# Altium footprint library RLC.PcbLib: 151 footprints (part 5 of 10)
Each footprint in its own frame and in the unit in brackets; x right, y up, seen from the top. Pads: shape width x height; smd on the part's side, far side on the other; paste and mask are expansions set on the pad; w line width, h text height; cw(c..) or ccw(c..) is an arc to the next point about the centre after c.
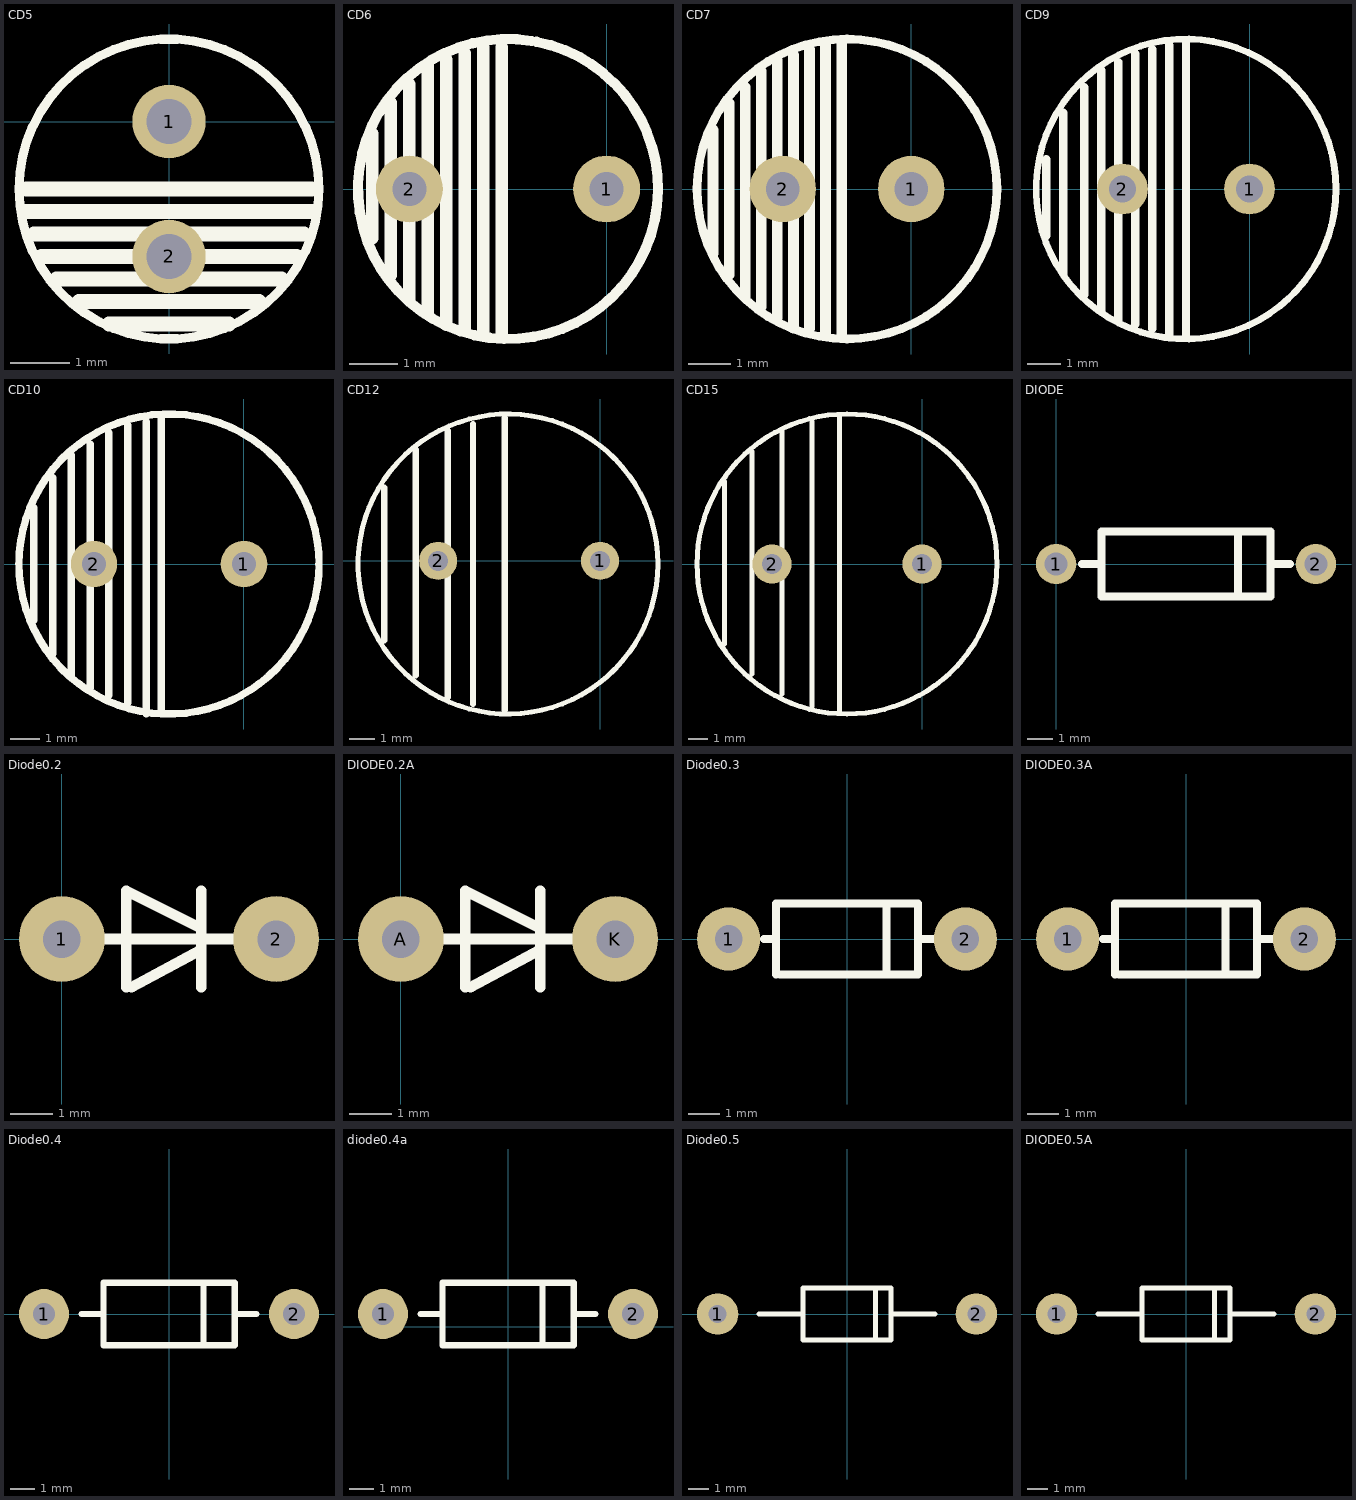
[diagram p4: the footprints below, top view; thin cyan lines are the x and y axes]

## CD5 [mm]
pads (2):
  round 1.24 hole 0.762: 1(0,0) 2(0,-2.286)
Top Overlay:
  circle w0.154: c0,-1.143 r2.54
  lines w0.254: -2.413,-1.524 2.413,-1.524 ; -2.413,-1.143 2.413,-1.143 ; -2.286,-1.905 2.286,-1.905 ; -2.159,-2.286 2.159,-2.286 ; -1.905,-2.667 1.905,-2.667 ; -1.524,-3.048 1.524,-3.048 ; -1.016,-3.429 1.016,-3.429

## CD6 [mm]
pads (2):
  round 1.38 hole 0.7: 1(0,0) 2(-4.064,0)
Top Overlay:
  lines w0.21: -1.549,3.052 ccw(c-2.032,0) -1.442,3.033
  lines w0.254: -4.826,-1.016 -4.826,1.143 ; -4.445,-1.778 -4.445,1.778 ; -4.064,-2.286 -4.064,2.159 ; -3.683,-2.54 -3.683,2.54 ; -3.302,-2.794 -3.302,2.667 ; -2.921,-2.921 -2.921,2.794 ; -2.54,-2.921 -2.54,2.921 ; -2.159,-3.048 -2.159,2.921

## CD7 [mil]
pads (2):
  round 62 hole 31.5: 1(0,0) 2(-120,0)
Top Overlay:
  circle w8: c-60,0 r140
  lines w10: -185,-60 -185,55 ; -170,-80 -170,80 ; -155,-100 -155,95 ; -140,-110 -140,110 ; -125,-120 -125,120 ; -110,-130 -110,125 ; -95,-130 -95,130 ; -80,-135 -80,135 ; -65,-135 -65,135

## CD9 [mil]
pads (2):
  round 60 hole 31.5: 1(0,0) 2(-150,0)
Top Overlay:
  circle w7.87: c-75,0 r177.16
  lines w10: -240,-55 -240,35 ; -220,-100 -220,90 ; -195,-125 -195,120 ; -175,-145 -175,140 ; -155,-155 -155,150 ; -135,-160 -135,160 ; -115,-165 -115,165 ; -95,-175 -95,170 ; -75,-175 -75,175

## CD10 [mil]
pads (2):
  round 62 hole 31.5: 1(0,0) 2(-200,0)
Top Overlay:
  circle w10: c-100,0 r200
  lines w10: -280,-75 -280,75 ; -255,-120 -255,115 ; -230,-150 -230,145 ; -205,-165 -205,160 ; -180,-175 -180,175 ; -155,-185 -155,185 ; -130,-200 -130,190 ; -110,-200 -110,195

## CD12 [mil]
pads (2):
  round 60 hole 31.5: 1(0,0) 2(-255,0)
Top Overlay:
  circle w7.87: c-145,-5 r236.22
  lines w10: -340,-125 -340,115 ; -290,-180 -290,175 ; -240,-215 -240,205 ; -200,-225 -200,215 ; -150,-235 -150,225

## CD15 [mm]
pads (2):
  round 2 hole 1: 1(0,0) 2(-7.62,0)
Top Overlay:
  circle w0.254: c-3.81,0 r7.62
  lines w0.254: -10.033,-4.064 -10.033,4.191 ; -8.636,-5.588 -8.636,5.715 ; -7.112,-6.604 -7.112,6.731 ; -5.588,-7.239 -5.588,7.239 ; -4.191,-7.493 -4.191,7.493

## DIODE [mil]
pads (2):
  round 62 hole 35.43: 1(0,0) 2(400,0)
Top Overlay:
  lines w12: 40,0 70,0 ; 280,-50 280,50 ; 330,0 360,0 ; 70,-50 330,-50 330,50 70,50 70,-50

## Diode0.2 [mil]
pads (2):
  round 80 hole 35: 1(0,0) 2(200,0)
Top Overlay:
  lines w10: 35,0 160,0 ; 60,-45 60,45 130,10 ; 65,-45 130,-10 ; 130,-45 130,45

## DIODE0.2A [mil]
pads (2):
  round 80 hole 35: A(0,0) K(200,0)
Top Overlay:
  lines w10: 35,0 160,0 ; 60,-45 60,45 130,10 ; 65,-45 130,-10 ; 130,-45 130,45

## Diode0.3 [mil]
pads (2):
  round 80 hole 35: 1(-150,0) 2(150,0)
Top Overlay:
  lines w10: -105,0 -90,0 ; -90,-45 -90,45 90,45 90,-45 -85,-45 ; 50,-45 50,45 ; 90,0 110,0

## DIODE0.3A [mil]
pads (2):
  round 80 hole 35: 1(-150,0) 2(150,0)
Top Overlay:
  lines w10: -105,0 -90,0 ; -90,-45 -90,45 90,45 90,-45 -85,-45 ; 50,-45 50,45 ; 90,0 110,0

## Diode0.4 [mil]
pads (2):
  round 80 hole 35: 1(-200,0) 2(200,0)
Top Overlay:
  lines w10: -140,0 -105,0 ; 55,-50 55,50 ; 105,0 140,0 ; -105,-50 105,-50 105,50 -105,50 -105,-10 -105,-50

## diode0.4a [mil]
pads (2):
  round 80 hole 35: 1(-200,20) 2(200,20)
Top Overlay:
  lines w10: -140,20 -105,20 ; 55,-30 55,70 ; 105,20 140,20 ; -105,-30 105,-30 105,70 -105,70 -105,10 -105,-30

## Diode0.5 [mil]
pads (2):
  round 80 hole 35: 1(-250,0) 2(250,0)
Top Overlay:
  lines w10: -170,0 -85,0 ; 55,-50 55,50 ; 85,0 170,0 ; -85,0 -85,-50 85,-50 85,50 -85,50 -85,0

## DIODE0.5A [mil]
pads (2):
  round 80 hole 35: 1(-250,0) 2(250,0)
Top Overlay:
  lines w10: -170,0 -85,0 ; 55,-50 55,50 ; 85,0 170,0 ; -85,0 -85,-50 85,-50 85,50 -85,50 -85,0